# Altium footprint library 野火_F429_V2核心板_PCB封装库_AD格式.PcbLib: 20 footprints (part 1 of 2)
Each footprint in its own frame and in the unit in brackets; x right, y up, seen from the top. Pads: shape width x height; smd on the part's side, far side on the other; paste and mask are expansions set on the pad; w line width, h text height; cw(c..) or ccw(c..) is an arc to the next point about the centre after c.
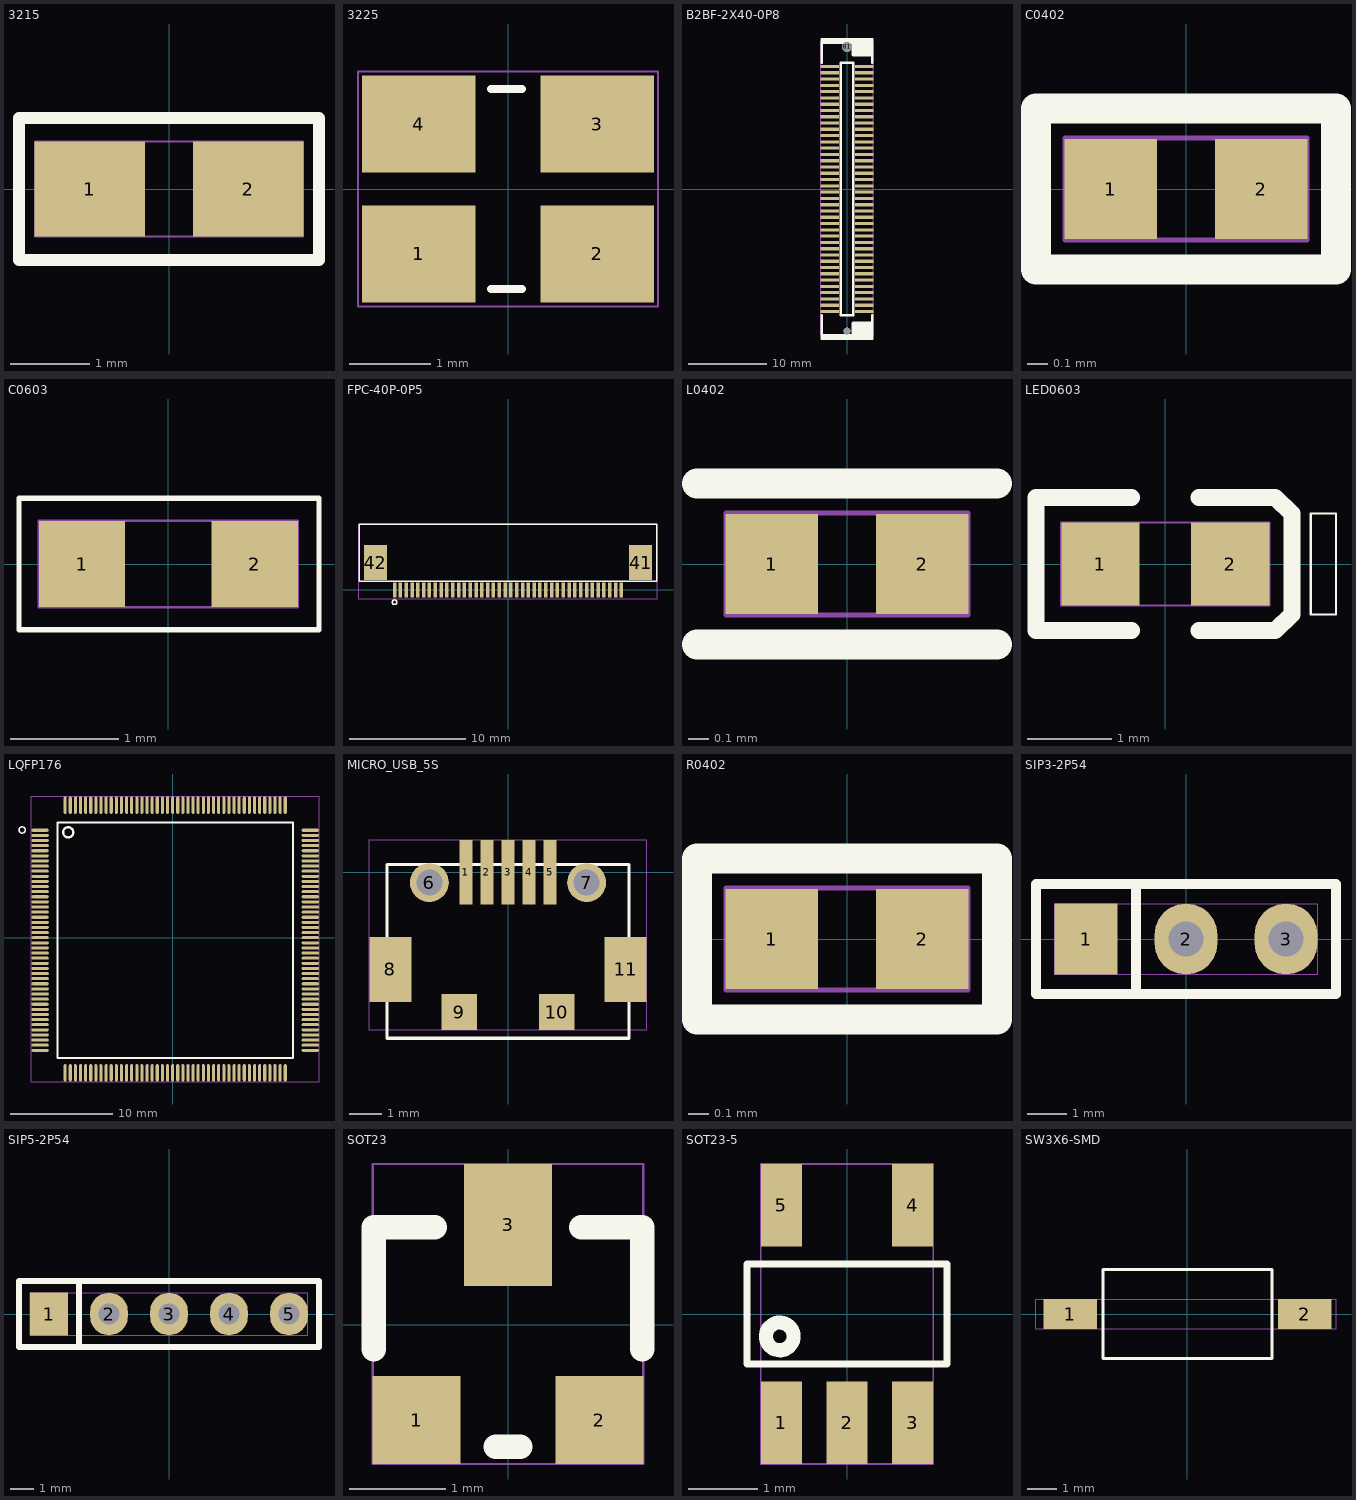
[diagram p0: the footprints below, top view; thin cyan lines are the x and y axes]

## 3215 [mil]
pads (2):
  rect 55.1x47.2 smd mask+2: 1(-39.4,0) 2(39.4,0)
Top Overlay:
  lines w5.9: -74.8,-35.4 -74.8,35.4 74.8,35.4 74.8,-35.4 -74.8,-35.4
Top Assembly:
  text "Y2" at 38.97,25.04 h50
Mechanical 18:
  lines w1: -66.9,-23.6 66.9,-23.6 66.9,23.6 -66.9,23.6 -66.9,-23.6

## 3225 [mil]
pads (4):
  rect 55.1x47.2 smd mask+2: 1(-43.3,-31.5) 2(43.3,-31.5) 3(43.3,31.5) 4(-43.3,31.5)
Top Overlay:
  lines w3.9: -8.3,-48.5 6.7,-48.5 ; -8.3,48.5 6.7,48.5
Top Assembly:
  text "Y1" at 28.26,25.04 h50
Mechanical 18:
  lines w1: -72.8,-57.1 72.8,-57.1 72.8,57.1 -72.8,57.1 -72.8,-57.1

## B2BF-2X40-0P8 [mil]
pads (82):
  rect 90.6x15.8 smd mask+1.95: 1(-86.6,614.2) 2(86.6,614.2) 3(-86.6,582.7) 4(86.6,582.7) 5(-86.6,551.2) 6(86.6,551.2) 7(-86.6,519.7) 8(86.6,519.7) 9(-86.6,488.2) 10(86.6,488.2) 11(-86.6,456.7) 12(86.6,456.7) 13(-86.6,425.2) 14(86.6,425.2) 15(-86.6,393.7) 16(86.6,393.7) 17(-86.6,362.2) 18(86.6,362.2) 19(-86.6,330.7) 20(86.6,330.7) 21(-86.6,299.2) 22(86.6,299.2) 23(-86.6,267.7) 24(86.6,267.7) 25(-86.6,236.2) 26(86.6,236.2) 27(-86.6,204.7) 28(86.6,204.7) 29(-86.6,173.2) 30(86.6,173.2) 31(-86.6,141.7) 32(86.6,141.7) 33(-86.6,110.2) 34(86.6,110.2) 35(-86.6,78.7) 36(86.6,78.7) 37(-86.6,47.2) 38(86.6,47.2) 39(-86.6,15.8) 40(86.6,15.8) 41(-86.6,-15.8) 42(86.6,-15.8) 43(-86.6,-47.2) 44(86.6,-47.2) 45(-86.6,-78.7) 46(86.6,-78.7) 47(-86.6,-110.2) 48(86.6,-110.2) 49(-86.6,-141.7) 50(86.6,-141.7) 51(-86.6,-173.2) 52(86.6,-173.2) 53(-86.6,-204.7) 54(86.6,-204.7) 55(-86.6,-236.2) 56(86.6,-236.2) 57(-86.6,-267.7) 58(86.6,-267.7) 59(-86.6,-299.2) 60(86.6,-299.2) 61(-86.6,-330.7) 62(86.6,-330.7) 63(-86.6,-362.2) 64(86.6,-362.2) 65(-86.6,-393.7) 66(86.6,-393.7) 67(-86.6,-425.2) 68(86.6,-425.2) 69(-86.6,-456.7) 70(86.6,-456.7) 71(-86.6,-488.2) 72(86.6,-488.2) 73(-86.6,-519.7) 74(86.6,-519.7) 75(-86.6,-551.2) 76(86.6,-551.2) 77(-86.6,-582.7) 78(86.6,-582.7) 79(-86.6,-614.2) 80(86.6,-614.2)
  round 51.2 hole 51.2 unplated mask+1.95: 81(0,712.6)
  round 35.4 hole 35.4 unplated mask+2.5: 82(0,-712.6)
Top Overlay:
  lines w12: -126,-633.9 -126,-752 126,-752 126,-633.9 ; -126,633.9 -126,752 126,752 126,633.9 ; -31.5,-633.9 -31.5,633.9 31.5,633.9 31.5,-633.9 -31.5,-633.9
  lines w19.7: -118.1,-736.2 118.1,-736.2 ; -118.1,736.2 118.1,736.2 ; 31.9,-720.5 118.5,-720.5 ; 31.9,-704.7 118.5,-704.7 ; 31.9,-689 118.5,-689 ; 31.9,-673.2 118.5,-673.2 ; 31.9,673.2 118.5,673.2 ; 31.9,689 118.5,689 ; 31.9,704.7 118.5,704.7 ; 31.9,720.5 118.5,720.5 ; 33.5,-720.5 33.5,-673.2 ; 33.5,673.2 33.5,720.5
Top Assembly:
  text "CN2" at -65.16,-25.04 h50
Mechanical 18:
  lines w1: -131.9,-730.3 131.9,-730.3 131.9,738.2 -131.9,738.2 -131.9,-730.3

## C0402 [mil]
pads (2):
  rect 18.1x19.7 smd mask+1.95: 1(-14.8,0) 2(14.8,0)
Top Overlay:
  lines w5.9: -29.5,-15.8 -29.5,15.8 29.5,15.8 29.5,-15.8 -29.5,-15.8
Top Assembly:
  text "C9" at 40.4,25.04 h50
Mechanical 18:
  lines w1: -23.8,-10 23.8,-10 23.8,10 -23.8,10 -23.8,-10

## C0603 [mil]
pads (2):
  rect 31.5x31.5 smd mask+1.95: 1(-31.5,0) 2(31.5,0)
Top Overlay:
  lines w2: -54.5,-24 55,-24 55,24 -54.5,24 -54.5,-24
Top Assembly:
  text "C80" at 63.85,25.04 h50
Mechanical 18:
  lines w1: -47.2,-15.8 47.2,-15.8 47.2,15.8 -47.2,15.8 -47.2,-15.8

## FPC-40P-0P5 [mil]
pads (42):
  rect 11.8x51.2 smd mask+1.95: 1(-383.9,0) 2(-364.2,0) 3(-344.5,0) 4(-324.8,0) 5(-305.1,0) 6(-285.4,0) 7(-265.8,0) 8(-246.1,0) 9(-226.4,0) 10(-206.7,0) 11(-187,0) 12(-167.3,0) 13(-147.6,0) 14(-128,0) 15(-108.3,0) 16(-88.6,0) 17(-68.9,0) 18(-49.2,0) 19(-29.5,0) 20(-9.8,0) 21(9.8,0) 22(29.5,0) 23(49.2,0) 24(68.9,0) 25(88.6,0) 26(108.3,0) 27(128,0) 28(147.6,0) 29(167.3,0) 30(187,0) 31(206.7,0) 32(226.4,0) 33(246.1,0) 34(265.8,0) 35(285.4,0) 36(305.1,0) 37(324.8,0) 38(344.5,0) 39(364.2,0) 40(383.9,0)
  rect 78.7x118.1 smd mask+1.95: 41(448.8,92.5) 42(-448.8,92.5)
Top Overlay:
  circle w5: c-383.86,-41.34 r7.86
  lines w5: -503.9,29.5 -503.9,222.4 503.9,222.4 503.9,29.5 -503.9,29.5
Top Assembly:
  text "J1" at -24.33,-25.04 h50
Mechanical 18:
  lines w1: -505,-29.5 -505,225 505,225 505,-29.5 -505,-29.5

## L0402 [mil]
pads (2):
  rect 18.1x19.7 smd mask+1.95: 1(-14.8,0) 2(14.8,0)
Top Overlay:
  lines w5.9: -29.5,-15.8 29.5,-15.8 ; -29.5,15.8 29.5,15.8
Top Assembly:
  text "L3" at -33.73,-25.04 h50
Mechanical 18:
  lines w1: -23.8,-10 23.8,-10 23.8,10 -23.8,10 -23.8,-10

## LED0603 [mil]
pads (2):
  rect 36.6x38.6 smd mask+1.95: 1(-30.3,0) 2(30.3,0)
Top Overlay:
  lines w1: 67.9,-23.6 67.9,23.6 79.7,23.6 79.7,-23.6 67.9,-23.6
  lines w7.9: -15.8,-31.1 -60.4,-31.1 -60.4,31.1 -15.8,31.1 ; 15.8,-31.1 51.2,-31.1 59.1,-23.5 59.1,23.5 51.2,31.1 15.8,31.1
Top Assembly:
  text "D1" at -28.26,-25.04 h50
Mechanical 18:
  lines w1: -48.6,-19.3 48.6,-19.3 48.6,19.3 -48.6,19.3 -48.6,-19.3

## LQFP176 [mil]
pads (176):
  oval 66.9x11.8 smd mask+2: 1(-509.8,413.4) 2(-509.8,393.7) 3(-509.8,374) 4(-509.8,354.3) 5(-509.8,334.6) 6(-509.8,315) 7(-509.8,295.3) 8(-509.8,275.6) 9(-509.8,255.9) 10(-509.8,236.2) 11(-509.8,216.5) 12(-509.8,196.8) 13(-509.8,177.2) 14(-509.8,157.5) 15(-509.8,137.8) 16(-509.8,118.1) 17(-509.8,98.4) 18(-509.8,78.7) 19(-509.8,59.1) 20(-509.8,39.4) 21(-509.8,19.7) 22(-509.8,0) 23(-509.8,-19.7) 24(-509.8,-39.4) 25(-509.8,-59.1) 26(-509.8,-78.7) 27(-509.8,-98.4) 28(-509.8,-118.1) 29(-509.8,-137.8) 30(-509.8,-157.5) 31(-509.8,-177.2) 32(-509.8,-196.8) 33(-509.8,-216.5) 34(-509.8,-236.2) 35(-509.8,-255.9) 36(-509.8,-275.6) 37(-509.8,-295.3) 38(-509.8,-315) 39(-509.8,-334.6) 40(-509.8,-354.3) 41(-509.8,-374) 42(-509.8,-393.7) 43(-509.8,-413.4) 44(-509.8,-433.1) 89(529.5,-433.1) 90(529.5,-413.4) 91(529.5,-393.7) 92(529.5,-374) 93(529.5,-354.3) 94(529.5,-334.6) 95(529.5,-315) 96(529.5,-295.3) 97(529.5,-275.6) 98(529.5,-255.9) 99(529.5,-236.2) 100(529.5,-216.5) 101(529.5,-196.8) 102(529.5,-177.2) 103(529.5,-157.5) 104(529.5,-137.8) 105(529.5,-118.1) 106(529.5,-98.4) 107(529.5,-78.7) 108(529.5,-59.1) 109(529.5,-39.4) 110(529.5,-19.7) 111(529.5,0) 112(529.5,19.7) 113(529.5,39.4) 114(529.5,59.1) 115(529.5,78.7) 116(529.5,98.4) 117(529.5,118.1) 118(529.5,137.8) 119(529.5,157.5) 120(529.5,177.2) 121(529.5,196.8) 122(529.5,216.5) 123(529.5,236.2) 124(529.5,255.9) 125(529.5,275.6) 126(529.5,295.3) 127(529.5,315) 128(529.5,334.6) 129(529.5,354.3) 130(529.5,374) 131(529.5,393.7) 132(529.5,413.4)
  oval 11.8x66.9 smd mask+2: 45(-413.4,-519.7) 46(-393.7,-519.7) 47(-374,-519.7) 48(-354.3,-519.7) 49(-334.6,-519.7) 50(-315,-519.7) 51(-295.3,-519.7) 52(-275.6,-519.7) 53(-255.9,-519.7) 54(-236.2,-519.7) 55(-216.5,-519.7) 56(-196.8,-519.7) 57(-177.2,-519.7) 58(-157.5,-519.7) 59(-137.8,-519.7) 60(-118.1,-519.7) 61(-98.4,-519.7) 62(-78.7,-519.7) 63(-59.1,-519.7) 64(-39.4,-519.7) 65(-19.7,-519.7) 66(0,-519.7) 67(19.7,-519.7) 68(39.4,-519.7) 69(59.1,-519.7) 70(78.7,-519.7) 71(98.4,-519.7) 72(118.1,-519.7) 73(137.8,-519.7) 74(157.5,-519.7) 75(177.2,-519.7) 76(196.8,-519.7) 77(216.5,-519.7) 78(236.2,-519.7) 79(255.9,-519.7) 80(275.6,-519.7) 81(295.3,-519.7) 82(315,-519.7) 83(334.6,-519.7) 84(354.3,-519.7) 85(374,-519.7) 86(393.7,-519.7) 87(413.4,-519.7) 88(433.1,-519.7) 133(433.1,509.8) 134(413.4,509.8) 135(393.7,509.8) 136(374,509.8) 137(354.3,509.8) 138(334.6,509.8) 139(315,509.8) 140(295.3,509.8) 141(275.6,509.8) 142(255.9,509.8) 143(236.2,509.8) 144(216.5,509.8) 145(196.8,509.8) 146(177.2,509.8) 147(157.5,509.8) 148(137.8,509.8) 149(118.1,509.8) 150(98.4,509.8) 151(78.7,509.8) 152(59.1,509.8) 153(39.4,509.8) 154(19.7,509.8) 155(0,509.8) 156(-19.7,509.8) 157(-39.4,509.8) 158(-59.1,509.8) 159(-78.7,509.8) 160(-98.4,509.8) 161(-118.1,509.8) 162(-137.8,509.8) 163(-157.5,509.8) 164(-177.2,509.8) 165(-196.8,509.8) 166(-216.5,509.8) 167(-236.2,509.8) 168(-255.9,509.8) 169(-275.6,509.8) 170(-295.3,509.8) 171(-315,509.8) 172(-334.6,509.8) 173(-354.3,509.8) 174(-374,509.8) 175(-393.7,509.8) 176(-413.4,509.8)
Top Overlay:
  circle w6: c-578.86,414.38 r12.06
  circle w8.7: c-401.57,405.51 r19.67
  lines w8.7: -442.9,-462.6 -442.9,442.9 ; -442.9,-462.6 462.6,-462.6 ; -442.9,-462.6 -442.9,442.9 ; -442.9,-462.6 462.6,-462.6 ; -442.9,442.9 462.6,442.9 ; -442.9,442.9 462.6,442.9 ; 462.6,-462.6 462.6,442.9 ; 462.6,-462.6 462.6,442.9
Top Assembly:
  text "U3" at -40.28,-25.04 h50
Mechanical 18:
  lines w1: -543.3,-553.2 563,-553.2 563,543.3 -543.3,543.3 -543.3,-553.2

## MICRO_USB_5S [mil]
pads (11):
  rect 15.8x78.7 smd mask+2: 1(-51.2,0) 2(-25.6,0) 3(0,0) 4(25.6,0) 5(51.2,0)
  round 47.2 hole 31.5 mask+2: 6(-95.5,-12.6) 7(95.5,-12.6)
  rect 51.2x78.7 all layers, no hole mask+2: 8(-142.7,-118.1) 11(142.7,-118.1)
  rect 43.3x43.3 smd mask+1.95: 9(-59.1,-169.7) 10(59.1,-169.7)
Top Overlay:
  lines w3.9: -146.8,-201.6 -146.8,9.2 ; -146.8,-201.6 146.8,-201.6 ; -146.8,-201.6 -146.8,9.2 ; -146.8,-201.6 146.8,-201.6 ; -146.8,9.2 146.8,9.2 ; -146.8,9.2 146.8,9.2 ; 146.8,-201.6 146.8,9.2 ; 146.8,-201.6 146.8,9.2
Top Assembly:
  text "J3" at 35.04,25.04 h50
Mechanical 18:
  lines w1: -168.3,-191.3 168.3,-191.3 168.3,39.4 -168.3,39.4 -168.3,-191.3

## R0402 [mil]
pads (2):
  rect 18.1x19.7 smd mask+1.95: 1(-14.8,0) 2(14.8,0)
Top Overlay:
  lines w5.9: -29.5,-15.8 -29.5,15.8 29.5,15.8 29.5,-15.8 -29.5,-15.8
Top Assembly:
  text "R9" at -37.78,-25.04 h50
Mechanical 18:
  lines w1: -23.8,-10 23.8,-10 23.8,10 -23.8,10 -23.8,-10

## SIP3-2P54 [mil]
pads (3):
  rect 63x70.9 all layers, no hole mask+1.95: 1(-100,0)
  oval 63x70.9 hole 35.4 mask+1.95: 2(0,0) 3(100,0)
Top Overlay:
  lines w10: -50,-55.1 -50,55.1 ; -150,-55.1 -150,55.1 150,55.1 150,-55.1 -150,-55.1
Top Assembly:
  text "J4" at -36.23,-25.04 h50
Mechanical 18:
  lines w1: -131.5,-35.4 131.5,-35.4 131.5,35.4 -131.5,35.4 -131.5,-35.4

## SIP5-2P54 [mil]
pads (5):
  rect 63x70.9 all layers, no hole mask+1.95: 1(-200,0)
  oval 63x70.9 hole 35.4 mask+1.95: 2(-100,0) 3(0,0) 4(100,0) 5(200,0)
Top Overlay:
  lines w10: -150,-55.1 -150,55.1 ; -250,-55.1 -250,55.1 250,55.1 250,-55.1 -250,-55.1
Top Assembly:
  text "J2" at -35.04,-25.04 h50
Mechanical 18:
  lines w1: -231.5,-35.4 231.5,-35.4 231.5,35.4 -231.5,35.4 -231.5,-35.4

## SOT23 [mil]
pads (3):
  rect 36x36 smd mask+1.95: 1(-37.5,-39) 2(37.5,-39)
  rect 36x50 smd mask+1.95: 3(0,41)
Top Overlay:
  lines w10: -55,-10 -55,40 -30,40 ; -5,-50 5,-50 ; 30,40 55,40 55,-10
Top Assembly:
  text "D2" at -38.97,-25.04 h50
Mechanical 18:
  lines w1: -55.5,-57 55.5,-57 55.5,66 -55.5,66 -55.5,-57

## SOT23-5 [mil]
pads (5):
  rect 23.6x47.2 smd mask+2: 1(-37.4,-62) 2(0,-62) 3(37.4,-62) 4(37.4,62) 5(-37.4,62)
Top Overlay:
  circle w8: c-38.4,-12.79 r7.9
  lines w4: -57.1,-28.5 57.1,-28.5 57.1,18.7 57.1,28.5 -57.1,28.5 -57.1,18.7 -57.1,-28.5
Top Assembly:
  text "U6" at 39.09,25.04 h50
Mechanical 18:
  lines w1: -49.2,-85.6 49.2,-85.6 49.2,85.6 -49.2,85.6 -49.2,-85.6

## SW3X6-SMD [mil]
pads (2):
  rect 70.9x39.4 smd mask+1.95: 1(-155,0) 2(155,0)
Top Overlay:
  lines w3.9: -112,-59.1 112,-59.1 112,59.1 -112,59.1 -112,-59.1
Top Assembly:
  text "SW5" at -67.77,-25.04 h50
Mechanical 18:
  lines w1: -200.4,-19.7 196.5,-19.7 196.5,19.7 -200.4,19.7 -200.4,-19.7